# Altium schematic symbol library NMOSFET.Schlib: 6 symbols
Pins are listed as number, name and electrical type; pins without a type are passive.

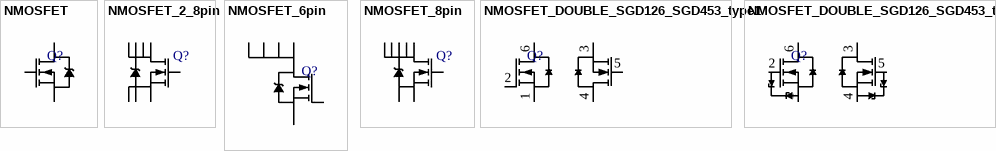
[diagram p0: symbols NMOSFET to NMOSFET_DOUBLE_SGD126_SGD453_type2]

## NMOSFET
designator Q?
pins: 1 G, 2 S, 3 D

## NMOSFET_2_8pin
designator Q?
pins: 1 S, 2 S, 3 S, 4 G, 5 D, 6 D, 7 D, 8 D

## NMOSFET_6pin
designator Q?
pins: 1 D, 2 D, 3 G, 4 S, 5 D, 6 D

## NMOSFET_8pin
designator Q?
pins: 1 S, 2 D, 3 G, 4 S, 5 D, 6 D, 7 D, 8 S

## NMOSFET_DOUBLE_SGD126_SGD453_type1
designator Q?
pins: 1 S1, 2 G1, 3 S2, 4 D2, 5 G2, 6 D1

## NMOSFET_DOUBLE_SGD126_SGD453_type2
designator Q?
pins: 1 S1, 2 G1, 3 D2, 4 S2, 5 G2, 6 D1